# Altium schematic symbol library schottky-A1C2CA3.SchLib: 1 symbol
Pins are listed as number, name and electrical type; pins without a type are passive.

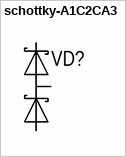
[diagram p0: symbol schottky-A1C2CA3]

## schottky-A1C2CA3
designator VD?
pins: 1 A, 2 C, 3 AC